# Altium footprint library Connectors.PcbLib: 18 footprints (part 1 of 2)
Each footprint in its own frame and in the unit in brackets; x right, y up, seen from the top. Pads: shape width x height; smd on the part's side, far side on the other; paste and mask are expansions set on the pad; w line width, h text height; cw(c..) or ccw(c..) is an arc to the next point about the centre after c.
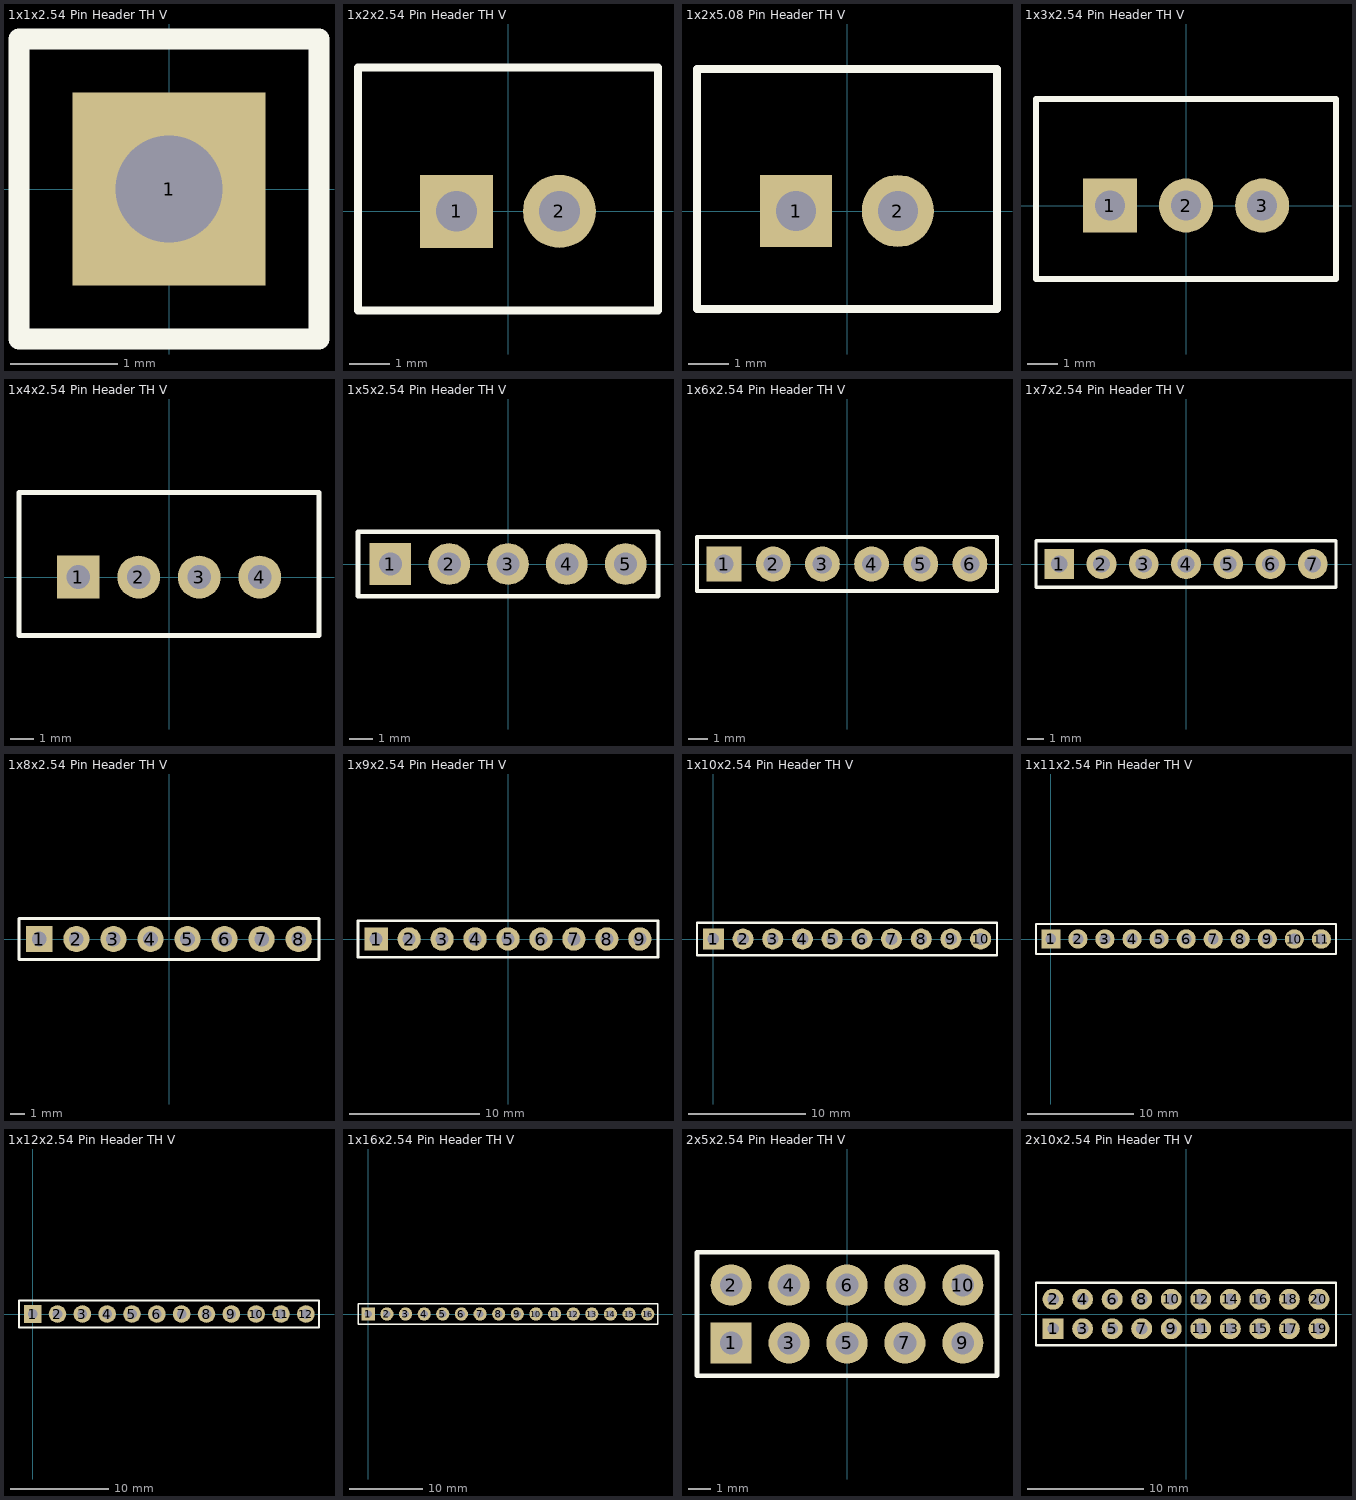
[diagram p0: the footprints below, top view; thin cyan lines are the x and y axes]

## 1x1x2.54 Pin Header TH V [mm] "1x1x2.54 Pin Header TH V"
height 8.54
pads (1):
  rect 1.8x1.8 hole 1: 1(0,0)
Top Overlay:
  lines w0.2: -1.397,-1.397 1.397,-1.397 1.397,1.397 -1.397,1.397 -1.397,-1.397
3D body "1x1x2.54 Pin Header TH V.STEP": height 8.55, standoff -2.99, extent -1.27,-1.27 1.27,1.27

## 1x2x2.54 Pin Header TH V [mm] "1x2x2.54 Pin Header TH V"
height 8.54
pads (2):
  rect 1.8x1.8 hole 1: 1(-1.27,0)
  round 1.8 hole 1: 2(1.27,0)
Top Overlay:
  lines w0.2: -3.7,-2.45 -3.7,3.55 3.7,3.55 3.7,-2.45 -3.7,-2.45
3D body "1x2x2.54 Pin Header TH  V.STEP": height 8.55, standoff -2.99, extent -2.54,-1.27 2.54,1.27

## 1x2x5.08 Pin Header TH V [mm] "1x2x5.08 Pin Header TH V"
height 8.54
pads (2):
  rect 1.8x1.8 hole 1: 1(-1.27,0)
  round 1.8 hole 1: 2(1.27,0)
Top Overlay:
  lines w0.2: -3.75,-2.45 3.75,-2.45 3.75,3.55 -3.75,3.55 -3.75,-2.45

## 1x3x2.54 Pin Header TH V [mm] "1x3x2.54 Pin Header TH V"
height 8.54
pads (3):
  rect 1.8x1.8 hole 1: 1(-2.54,0)
  round 1.8 hole 1: 2(0,0) 3(2.54,0)
Top Overlay:
  lines w0.2: -5,-2.45 5,-2.45 5,3.55 -5,3.55 -5,-2.45
3D body "1x3x2.54 Pin Header TH  V.STEP": height 8.55, standoff -2.99, extent -3.81,-1.27 3.81,1.27

## 1x4x2.54 Pin Header TH V [mm] "1x4x2.54 Pin Header TH V"
height 8.54
pads (4):
  rect 1.8x1.8 hole 1: 1(-3.81,0)
  round 1.8 hole 1: 2(-1.27,0) 3(1.27,0) 4(3.81,0)
Top Overlay:
  lines w0.2: -6.3,-2.45 6.3,-2.45 6.3,3.55 -6.3,3.55 -6.3,-2.45
3D body "1x4x2.54 Pin Header TH  V.STEP": height 8.55, standoff -2.99, extent -5.08,-1.27 5.08,1.27

## 1x5x2.54 Pin Header TH V [mm] "1x5x2.54 Pin Header TH V"
height 8.54
pads (5):
  rect 1.8x1.8 hole 1: 1(-5.08,0)
  round 1.8 hole 1: 2(-2.54,0) 3(0,0) 4(2.54,0) 5(5.08,0)
Top Overlay:
  lines w0.2: -6.477,-1.397 6.477,-1.397 6.477,1.397 -6.477,1.397 -6.477,-1.397
3D body "1x5x2.54 Pin Header TH  V.STEP": height 8.55, standoff -2.99, extent -6.35,-1.27 6.35,1.27

## 1x6x2.54 Pin Header TH V [mm] "1x6x2.54 Pin Header TH V"
height 8.54
pads (6):
  rect 1.8x1.8 hole 1: 1(-6.35,0)
  round 1.8 hole 1: 2(-3.81,0) 3(-1.27,0) 4(1.27,0) 5(3.81,0) 6(6.35,0)
Top Overlay:
  lines w0.2: -7.747,-1.397 7.747,-1.397 7.747,1.397 -7.747,1.397 -7.747,-1.397
3D body "1x6x2.54 Pin Header TH  V.STEP": height 8.55, standoff -2.99, extent -7.62,-1.27 7.62,1.27

## 1x7x2.54 Pin Header TH V [mm] "1x7x2.54 Pin Header TH V"
height 8.54
pads (7):
  rect 1.8x1.8 hole 1: 1(-7.62,0)
  round 1.8 hole 1: 2(-5.08,0) 3(-2.54,0) 4(0,0) 5(2.54,0) 6(5.08,0) 7(7.62,0)
Top Overlay:
  lines w0.2: -9.017,-1.397 9.017,-1.397 9.017,1.397 -9.017,1.397 -9.017,-1.397
3D body "1x7x2.54 Pin Header TH  V.STEP": height 8.55, standoff -2.99, extent -8.89,-1.27 8.89,1.27

## 1x8x2.54 Pin Header TH V [mm] "1x8x2.54 Pin Header TH V"
height 8.54
pads (8):
  rect 1.8x1.8 hole 1: 1(-8.89,0)
  round 1.8 hole 1: 2(-6.35,0) 3(-3.81,0) 4(-1.27,0) 5(1.27,0) 6(3.81,0) 7(6.35,0) 8(8.89,0)
Top Overlay:
  lines w0.2: -10.287,-1.397 -10.287,1.397 10.287,1.397 10.287,-1.397 -10.287,-1.397
3D body "1x8x2.54 Pin Header TH  V.STEP": height 8.55, standoff -2.99, extent -10.16,-1.27 10.16,1.27

## 1x9x2.54 Pin Header TH V [mm] "1x9x2.54 Pin Header TH V"
height 8.54
pads (9):
  rect 1.8x1.8 hole 1: 1(-10.16,0)
  round 1.8 hole 1: 2(-7.62,0) 3(-5.08,0) 4(-2.54,0) 5(0,0) 6(2.54,0) 7(5.08,0) 8(7.62,0) 9(10.16,0)
Top Overlay:
  lines w0.2: -11.557,-1.397 -11.557,1.397 11.557,1.397 11.557,-1.397 -11.557,-1.397
3D body "1x9x2.54 Pin Header TH  V.STEP": height 8.55, standoff -2.99, extent -11.43,-1.27 11.43,1.27

## 1x10x2.54 Pin Header TH V [mm] "1x10x2.54 Pin Header TH V"
height 8.54
pads (10):
  rect 1.8x1.8 hole 1: 1(0,0)
  round 1.8 hole 1: 2(2.54,0) 3(5.08,0) 4(7.62,0) 5(10.16,0) 6(12.7,0) 7(15.24,0) 8(17.78,0) 9(20.32,0) 10(22.86,0)
Top Overlay:
  lines w0.2: -1.397,-1.397 -1.397,1.397 24.257,1.397 24.257,-1.397 -1.397,-1.397
3D body "1x10x2.54 Pin Header TH  V.STEP": height 8.55, standoff -2.99, extent -1.27,-1.27 24.13,1.27

## 1x11x2.54 Pin Header TH V [mm] "1x11x2.54 Pin Header TH V"
height 8.54
pads (11):
  rect 1.8x1.8 hole 1: 1(0,0)
  round 1.8 hole 1: 2(2.54,0) 3(5.08,0) 4(7.62,0) 5(10.16,0) 6(12.7,0) 7(15.24,0) 8(17.78,0) 9(20.32,0) 10(22.86,0) 11(25.4,0)
Top Overlay:
  lines w0.2: -1.397,-1.397 -1.397,1.397 26.772,1.397 26.772,-1.397 -1.397,-1.397
3D body "1x11x2.54 Pin Header TH V.STEP": height 8.55, standoff -2.99, extent -1.27,-1.295 26.67,1.245

## 1x12x2.54 Pin Header TH V [mm] "1x12x2.54 Pin Header TH V"
height 8.54
pads (12):
  rect 1.8x1.8 hole 1: 1(0,0)
  round 1.8 hole 1: 2(2.54,0) 3(5.08,0) 4(7.62,0) 5(10.16,0) 6(12.7,0) 7(15.24,0) 8(17.78,0) 9(20.32,0) 10(22.86,0) 11(25.4,0) 12(27.94,0)
Top Overlay:
  lines w0.2: -1.397,-1.397 -1.397,1.397 29.286,1.397 29.286,-1.397 -1.397,-1.397
3D body "1x12x2.54 Pin Header TH V.STEP": height 8.55, standoff -2.99, extent -1.27,-1.295 29.21,1.245

## 1x16x2.54 Pin Header TH V [mm] "1x16x2.54 Pin Header TH V"
height 8.54
pads (16):
  rect 1.8x1.8 hole 1: 1(0,0)
  round 1.8 hole 1: 2(2.54,0) 3(5.08,0) 4(7.62,0) 5(10.16,0) 6(12.7,0) 7(15.24,0) 8(17.78,0) 9(20.32,0) 10(22.86,0) 11(25.4,0) 12(27.94,0) 13(30.48,0) 14(33.02,0) 15(35.56,0) 16(38.1,0)
Top Overlay:
  lines w0.2: -1.397,-1.397 39.497,-1.397 39.497,1.397 -1.397,1.397 -1.397,-1.397
3D body "1x16x2.54 Pin Header TH  V.STEP": height 8.55, standoff -2.99, extent -1.27,-1.27 39.37,1.27

## 2x5x2.54 Pin Header TH V [mm] "2x5x2.54 Pin Header TH V"
height 8.54
pads (10):
  rect 1.8x1.8 hole 1: 1(-5.08,-1.27)
  round 1.8 hole 1: 2(-5.08,1.27) 3(-2.54,-1.27) 4(-2.54,1.27) 5(0,-1.27) 6(0,1.27) 7(2.54,-1.27) 8(2.54,1.27) 9(5.08,-1.27) 10(5.08,1.27)
Top Overlay:
  lines w0.2: -6.579,-2.7 -6.579,2.7 6.579,2.7 6.579,-2.7 -6.579,-2.7
3D body "2x5x2.54 Pin Header TH V.STEP": height 8.55, standoff -2.99, extent -6.35,-2.54 6.35,2.54

## 2x10x2.54 Pin Header TH V [mm] "2x10x2.54 Pin Header TH V"
height 8.54
pads (20):
  rect 1.8x1.8 hole 1: 1(-11.43,-1.27)
  round 1.8 hole 1: 2(-11.43,1.27) 3(-8.89,-1.27) 4(-8.89,1.27) 5(-6.35,-1.27) 6(-6.35,1.27) 7(-3.81,-1.27) 8(-3.81,1.27) 9(-1.27,-1.27) 10(-1.27,1.27) 11(1.27,-1.27) 12(1.27,1.27) 13(3.81,-1.27) 14(3.81,1.27) 15(6.35,-1.27) 16(6.35,1.27) 17(8.89,-1.27) 18(8.89,1.27) 19(11.43,-1.27) 20(11.43,1.27)
Top Overlay:
  lines w0.2: -12.9,-2.7 -12.9,2.7 12.9,2.7 12.9,-2.7 -12.9,-2.7
3D body "2x10x2.54 Pin Header TH  V.STEP": height 8.55, standoff -2.99, extent -12.7,-2.54 12.7,2.54